# Altium footprint library General.PcbLib: 27 footprints (part 2 of 2)
Each footprint in its own frame and in the unit in brackets; x right, y up, seen from the top. Pads: shape width x height; smd on the part's side, far side on the other; paste and mask are expansions set on the pad; w line width, h text height; cw(c..) or ccw(c..) is an arc to the next point about the centre after c.
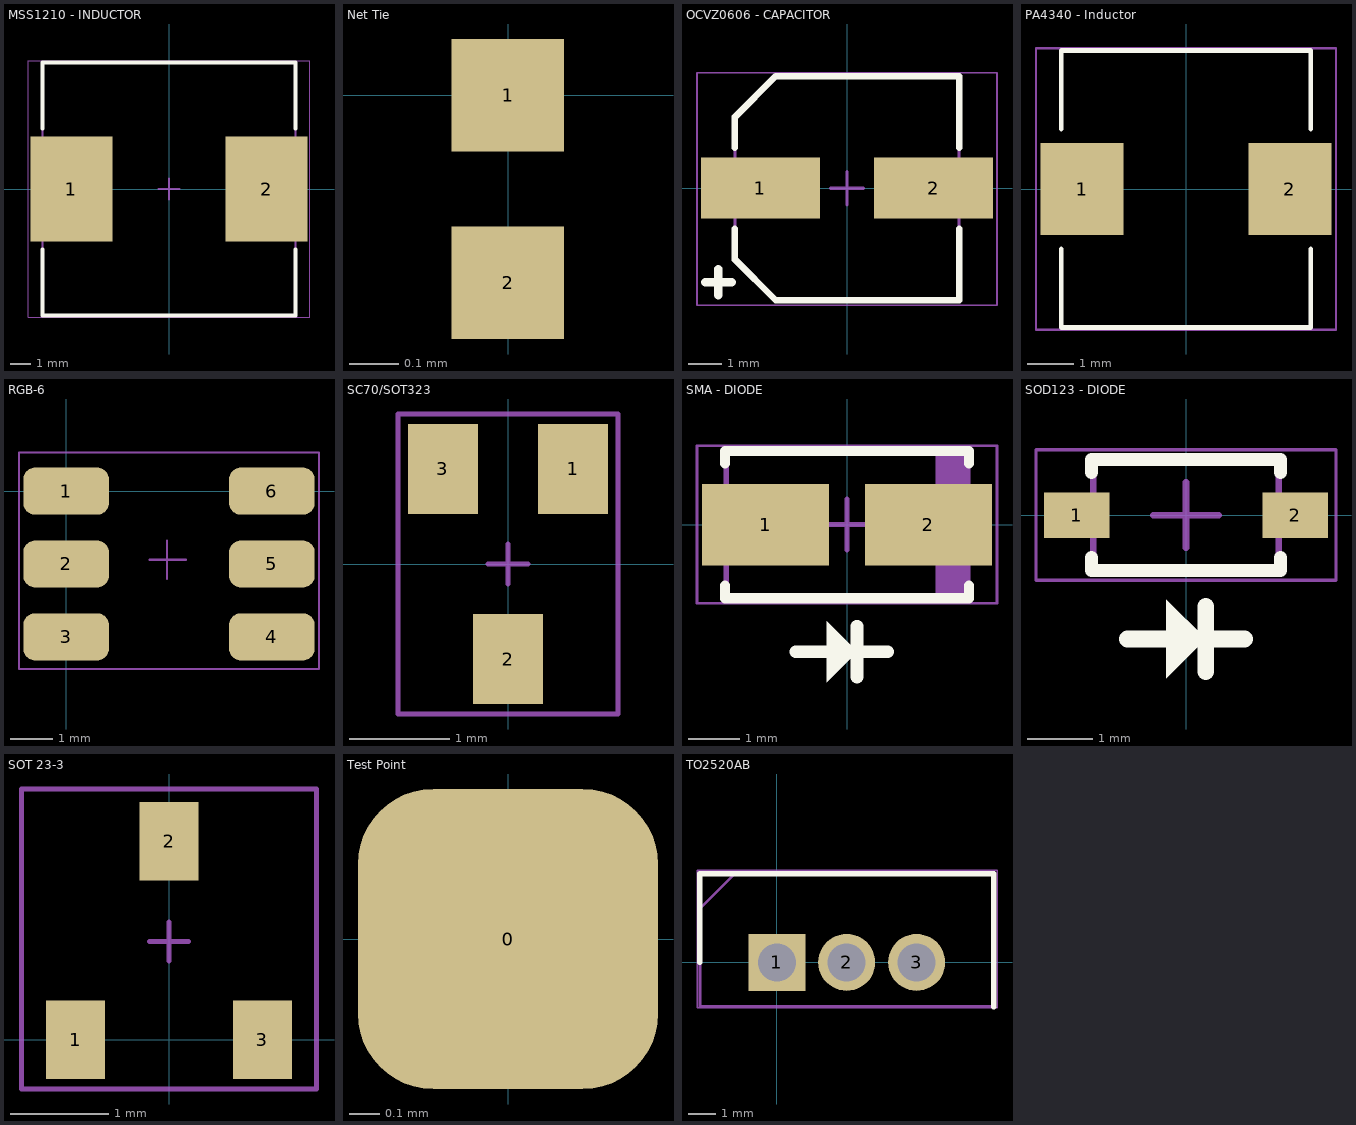
[diagram p1: the footprints below, top view; thin cyan lines are the x and y axes]

## MSS1210 - INDUCTOR [mm] "Precision Wire Wound Inductor, 2-Leads, Body 12.00x12.00mm, IPC Medium Density"
height 10.2
pads (2):
  rect 4x5.1 smd: 1(-4.75,0) 2(4.75,0)
Top Overlay:
  lines w0.2: -6.15,-2.95 -6.15,-6.15 6.15,-6.15 6.15,-2.95 ; -6.15,2.95 -6.15,6.15 6.15,6.15 6.15,2.95
Mechanical 13:
  lines w0.1: -6.15,-6.15 6.15,-6.15 6.15,6.15 -6.15,6.15 -6.15,-6.15
Mechanical 15:
  lines w0.05: -6.85,-6.25 6.85,-6.25 6.85,6.25 -6.85,6.25 -6.85,-6.25
  lines w0.1: -0.5,0 0.5,0 ; 0,-0.5 0,0.5
3D body "Coilcraft-MSS1210.step": height 10.16, standoff -0.04, extent -6.15,-6.15 6.15,6.15

## Net Tie [mil] "General Net TIe"
pads (2):
  rect 9x9 smd mask+0: 1(0,0) 2(0,-15)

## OCVZ0606 - CAPACITOR [mm] "Aluminum Electrolytic Capacitor, Body 6.60x6.60x6.00mm, IPC Low Density"
height 6
pads (2):
  rect 3.6x1.85 smd: 1(-2.625,0) 2(2.625,0)
Top Overlay:
  lines w0.2: -3.4,-1.225 -3.4,-2.163 -2.163,-3.4 3.4,-3.4 3.4,-1.225 ; -3.4,1.225 -3.4,2.163 -2.163,3.4 3.4,3.4 3.4,1.225
  lines w0.254: -4.3,-2.85 -3.5,-2.85 ; -3.9,-3.25 -3.9,-2.45
Mechanical 13:
  lines w0.1: -3.4,-2.163 -3.4,2.163 -2.163,3.4 3.4,3.4 3.4,-3.4 -2.163,-3.4 -3.4,-2.163
Mechanical 15:
  lines w0.05: -4.55,-3.55 4.55,-3.55 4.55,3.5 -4.55,3.5 -4.55,-3.55
  lines w0.1: -0.5,0 0.5,0 ; 0,-0.5 0,0.5
3D body "OCVZ0606 - CAPACITOR.step": height 6, standoff 0, extent -3.6,-3.4 3.6,3.4

## PA4340 - Inductor [mm]
pads (2):
  rect 1.8x2 smd: 1(-2.25,0) 2(2.25,0)
Top Overlay:
  lines w0.1: -2.7,-1.3 -2.7,-3 2.7,-3 2.7,-1.3 ; -2.7,1.3 -2.7,3 2.7,3 2.7,1.3
Mechanical 15:
  lines w0.05: -3.25,-3.05 -3.25,0.4 -3.25,3.05 3.25,3.05 3.25,-3.05 -3.25,-3.05
3D body "User Library-PA4340-PM4340.STEP": height 2.7, standoff -0.15, extent -3,-2.7 3,2.7

## RGB-6 [mm] "6 Pin RGB"
pads (6):
  rrect50% 2x1.1 smd: 1(0,0) 2(0,-1.7) 3(0,-3.4) 4(4.8,-3.4) 5(4.8,-1.7) 6(4.8,0)
Mechanical 15:
  lines w0.05: 1.95,-1.6 2.8,-1.6 ; 2.35,-2.05 2.35,-1.15 ; -1.1,-4.15 -1.1,0.9 5.9,0.9 5.9,-4.15 -1.1,-4.15
3D body "LED_WS2812_PLCC6_5.0x5.0mm_P1.6mm.step": height 1.85, standoff 0, extent -0.3,-4.15 5.1,0.85

## SC70/SOT323 [mm]
pads (3):
  rect 0.7x0.9 smd: 1(0.65,0.95) 2(0,-0.95) 3(-0.65,0.95)
Mechanical 15:
  lines w0.05: -0.2,0 0.2,0 ; 0,-0.2 0,0.2 ; -1.1,-1.5 1.1,-1.5 1.1,1.5 -1.1,1.5 -1.1,-1.5
3D body "SOT-323_SC-70.step": height 1.05, standoff 0, extent -1,-1 1,1

## SMA - DIODE [mm] "Molded Diode, 2-Leads, Body 4.38x2.63mm, IPC Medium Density"
height 2.95
pads (2):
  rect 2.5x1.6 smd: 1(-1.6,0) 2(1.6,0)
Top Overlay:
  region: 0.2,-2.5 -0.4,-1.9 -0.4,-3.1
  lines w0.2: -2.4,-1.2 -2.4,-1.45 2.4,-1.45 2.4,-1.2 ; -2.4,1.2 -2.4,1.45 2.4,1.45 2.4,1.2
  lines w0.254: -1,-2.5 -0.4,-2.5 ; 0.2,-3 0.2,-2 ; 0.2,-2.5 0.8,-2.5
Mechanical 13:
  rectangle: 1.736,-1.425 2.375,1.425
  lines w0.1: -2.375,-1.425 2.375,-1.425 2.375,1.425 -2.375,1.425 -2.375,-1.425
Mechanical 15:
  lines w0.05: -2.95,-1.55 2.95,-1.55 2.95,1.55 -2.95,1.55 -2.95,-1.55
  lines w0.1: -0.5,0 0.5,0 ; 0,-0.5 0,0.5
3D body "SMA - DIODE.step": height 2.95, standoff 0, extent -2.595,-1.425 2.595,1.425

## SOD123 - DIODE [mm] "SOD, 2-Leads, Body 1.55x3.70mm, IPC Medium Density"
height 1.35
pads (2):
  rect 1x0.7 smd: 1(-1.675,0) 2(1.675,0)
Top Overlay:
  region: 0.3,-1.9 -0.3,-1.3 -0.3,-2.5
  lines w0.2: -1.45,-0.65 -1.45,-0.85 1.45,-0.85 1.45,-0.65 ; -1.45,0.65 -1.45,0.85 1.45,0.85 1.45,0.65
  lines w0.254: -0.9,-1.9 -0.3,-1.9 ; 0.3,-2.4 0.3,-1.4 ; 0.3,-1.9 0.9,-1.9
Mechanical 13:
  lines w0.1: -1.425,-0.85 1.425,-0.85 1.425,0.85 -1.425,0.85 -1.425,-0.85
Mechanical 15:
  lines w0.05: -2.3,-1 2.3,-1 2.3,1 -2.3,1 -2.3,-1
  lines w0.1: -0.5,0 0.5,0 ; 0,-0.5 0,0.5
3D body "SOD123 - DIODE.step": height 1.35, standoff 0, extent -1.85,-0.85 1.85,0.85

## SOT 23-3 [mm]
pads (3):
  rect 0.6x0.8 smd: 1(-0.95,0) 2(0,2.02) 3(0.95,0)
Mechanical 15:
  lines w0.05: -0.2,1 0.2,1 ; 0,0.8 0,1.2 ; -1.5,-0.5 -1.5,2.55 1.5,2.55 1.5,-0.5 -1.5,-0.5
3D body "SOT-23.step": height 1.2, standoff 0, extent -1.5,-0.25 1.5,2.25

## Test Point [mm] "Test Point"
pads (1):
  rrect50% 1x1 smd: 0(0,0)

## TO2520AB [mm]
height 16.51
pads (3):
  rect 2.07x2.07 hole 1.38: 1(0,0)
  round 2.07 hole 1.38: 2(2.54,0) 3(5.08,0)
Top Overlay:
  lines w0.2: -2.795,0 -2.795,3.225 7.875,3.225 7.875,-1.605
Mechanical 13:
  lines w0.1: -2.795,1.955 -1.525,3.225 ; -2.795,-1.605 7.875,-1.605 7.875,3.225 -2.795,3.225 -2.795,-1.605
Mechanical 15:
  lines w0.05: -2.9,-1.65 8,-1.65 8,3.35 -2.9,3.35 -2.9,-1.65
3D body "IRF2807PBF.stp": height 18.86, standoff -17.4, extent -2.54,-1.605 7.62,3.225